# Altium footprint library RESC6432X70N.PcbLib: 1 footprints
Each footprint in its own frame and in the unit in brackets; x right, y up, seen from the top. Pads: shape width x height; smd on the part's side, far side on the other; paste and mask are expansions set on the pad; w line width, h text height; cw(c..) or ccw(c..) is an arc to the next point about the centre after c.
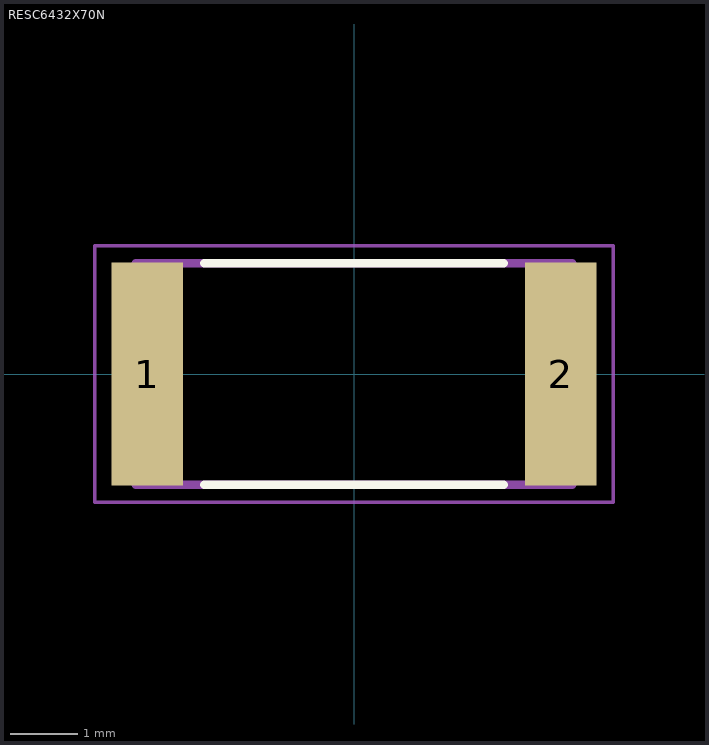
[diagram p0: the footprint, top view; thin cyan lines are the x and y axes]

## RESC6432X70N [mm]
pads (2):
  rect 1.06x3.32 smd: 1(-3.078,0) 2(3.078,0)
Top Overlay:
  lines w0.127: -2.23,-1.65 2.23,-1.65 ; -2.23,1.65 2.23,1.65
Mechanical 13:
  lines w0.127: -3.25,-1.65 3.25,-1.65 3.25,1.65 -3.25,1.65 -3.25,-1.65
Mechanical 15:
  lines w0.05: -3.858,-1.908 3.858,-1.908 3.858,1.908 -3.858,1.908 -3.858,-1.908